# Altium footprint library SerDes_Eval_Board_Footprints.PcbLib: 32 footprints (part 1 of 2)
Each footprint in its own frame and in the unit in brackets; x right, y up, seen from the top. Pads: shape width x height; smd on the part's side, far side on the other; paste and mask are expansions set on the pad; w line width, h text height; cw(c..) or ccw(c..) is an arc to the next point about the centre after c.
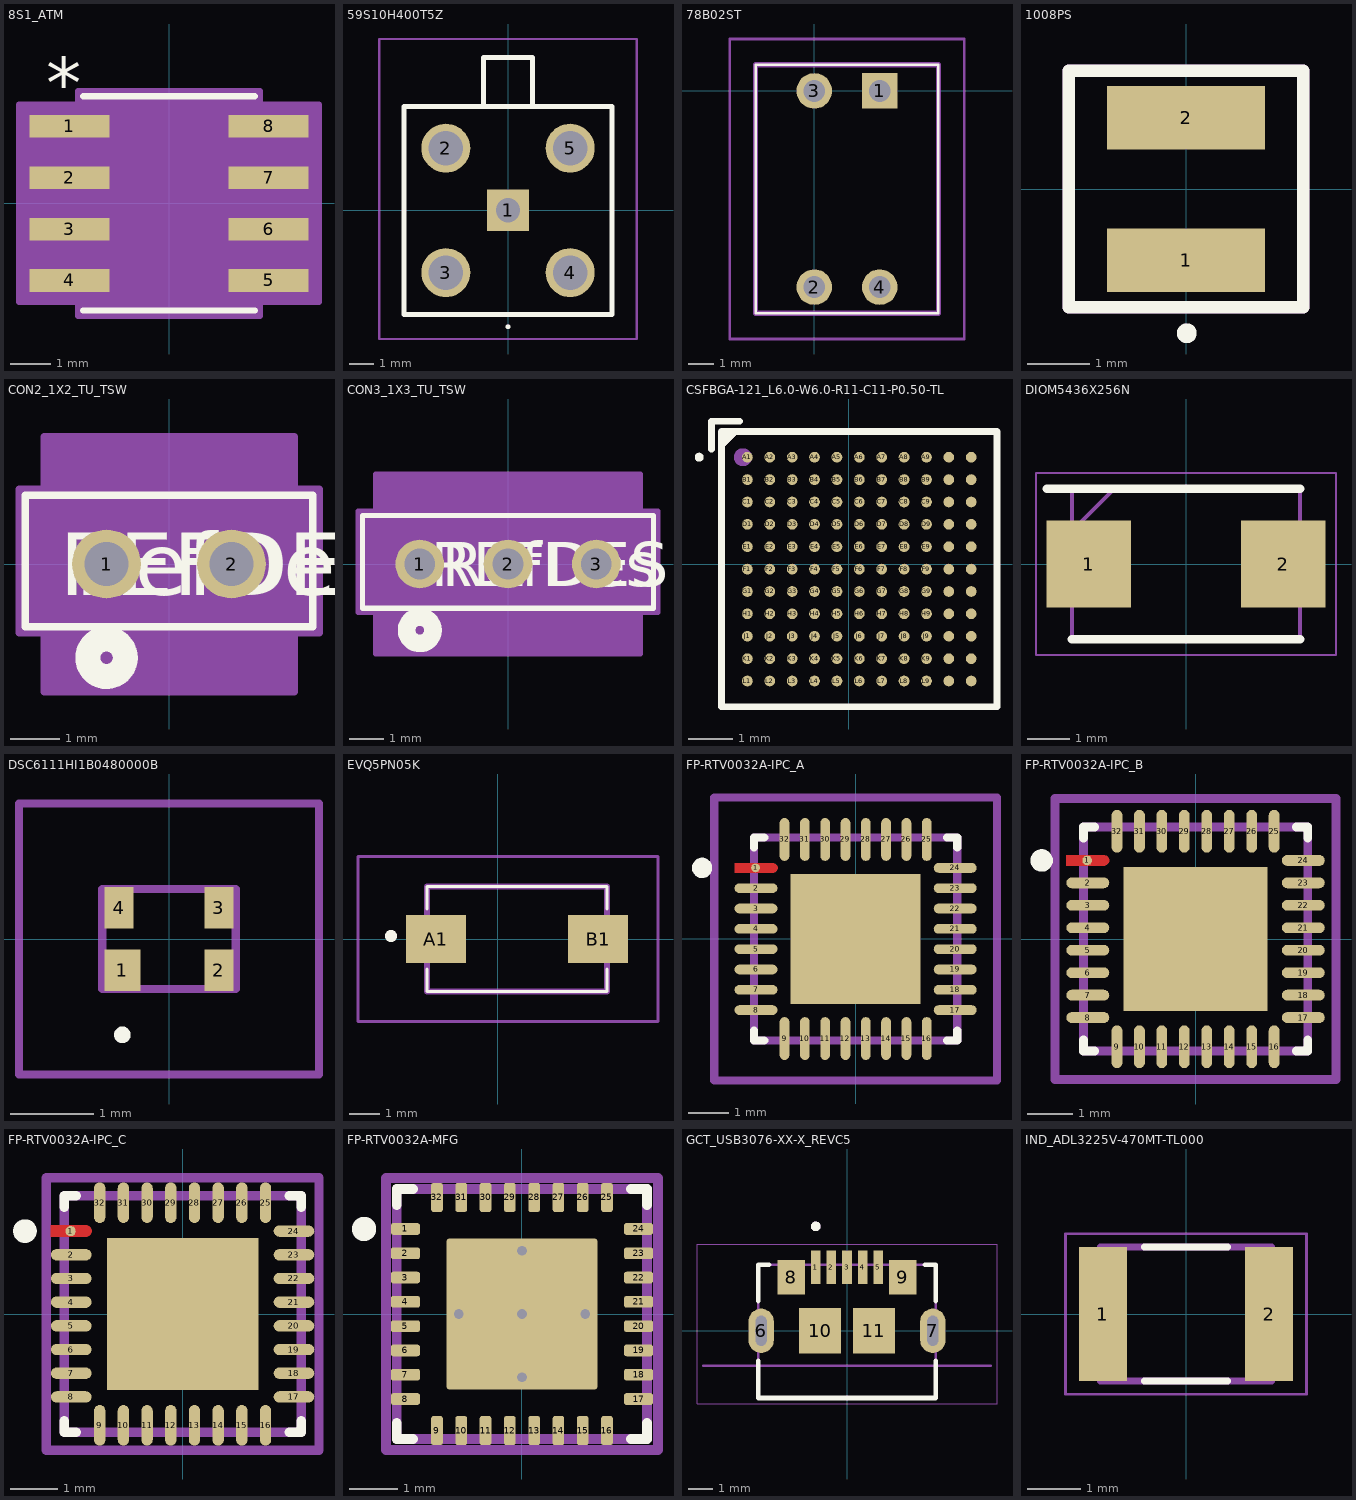
[diagram p0: the footprints below, top view; thin cyan lines are the x and y axes]

## 8S1_ATM [mm]
pads (8):
  rect 1.981x0.561 smd paste+0 mask+0: 1(-2.465,1.905) 2(-2.465,0.635) 3(-2.465,-0.635) 4(-2.465,-1.905) 5(2.465,-1.905) 6(2.465,-0.635) 7(2.465,0.635) 8(2.465,1.905)
Top Overlay:
  lines w0.152: -2.122,-2.652 2.122,-2.652 ; -2.122,2.652 2.122,2.652
  text ".Designator" at -3.492,-0.635 h1.27
  text "*" at -3.036,2.339 h1.27
Mechanical 13:
  lines w0.025: -0.305,2.525 ccw(c0,2.525) 0.305,2.525 ; -3.1,-2.16 -3.1,-1.65 -1.995,-1.65 -1.995,-2.16 -3.1,-2.16 ; -3.1,-0.89 -3.1,-0.38 -1.995,-0.38 -1.995,-0.89 -3.1,-0.89 ; -3.1,0.38 -3.1,0.89 -1.995,0.89 -1.995,0.38 -3.1,0.38 ; -3.1,1.65 -3.1,2.16 -1.995,2.16 -1.995,1.65 -3.1,1.65 ; -1.995,-2.525 1.995,-2.525 1.995,2.525 -1.995,2.525 -1.995,-2.525 ; 1.995,-2.16 1.995,-1.65 3.1,-1.65 3.1,-2.16 1.995,-2.16 ; 1.995,-0.89 1.995,-0.38 3.1,-0.38 3.1,-0.89 1.995,-0.89 ; 1.995,0.38 1.995,0.89 3.1,0.89 3.1,0.38 1.995,0.38 ; 1.995,1.65 1.995,2.16 3.1,2.16 3.1,1.65 1.995,1.65
  text "*" at -1.931,1.179 h1.27
  text ".Designator" at -3.492,-0.635 h1.27
Mechanical 15:
  region: -2.249,-2.439 -3.71,-2.439 -3.71,2.439 -2.249,2.439 -2.249,2.779 2.249,2.779 2.249,2.439 3.71,2.439 3.71,-2.439 2.249,-2.439 2.249,-2.779 -2.249,-2.779
  lines w0.152: -3.71,-2.439 -3.71,2.439 -2.249,2.439 -2.249,2.779 2.249,2.779 2.249,2.439 3.71,2.439 3.71,-2.439 2.249,-2.439 2.249,-2.779 -2.249,-2.779 -2.249,-2.439 -3.71,-2.439
3D body "8S1_ATM.step": height 1.75, standoff 0, extent -3.1,-2.525 3.1,2.525

## 59S10H400T5Z [mm]
pads (5):
  rect 1.7x1.7 hole 1: 1(0,0)
  round 2 hole 1.4: 2(-2.54,2.54) 3(-2.54,-2.54) 4(2.54,-2.54) 5(2.54,2.54)
Top Overlay:
  lines w0.1: 0,-4.8 ccw(c0,-4.75) 0,-4.7 ccw(c0,-4.75) 0,-4.8
  lines w0.2: -1,4.25 -1,6.25 1,6.25 1,4.25 ; -4.25,-4.25 4.25,-4.25 4.25,4.25 -4.25,4.25 -4.25,-4.25
Mechanical 13:
  lines w0.1: -1,4.25 -1,6.25 1,6.25 1,4.25 ; -4.25,-4.25 4.25,-4.25 4.25,4.25 -4.25,4.25 -4.25,-4.25
Mechanical 15:
  lines w0.1: -5.25,-5.25 5.25,-5.25 5.25,7 -5.25,7 -5.25,-5.25
3D body "59S10H-400T5-Z.stp": height 11.86, standoff -4.59, extent -4.25,-4.25 4.25,6.25

## 78B02ST [mm]
pads (4):
  rect 1.381x1.381 hole 0.85: 1(2.54,0)
  round 1.381 hole 0.85: 2(0,-7.62) 3(0,0) 4(2.54,-7.62)
Top Overlay:
  lines w0.1: -2.28,-8.635 4.82,-8.635 4.82,1.015 -2.28,1.015 -2.28,-8.635
Mechanical 15:
  lines w0.2: -2.28,-8.635 4.82,-8.635 4.82,1.015 -2.28,1.015 -2.28,-8.635
Mechanical 20:
  lines w0.1: -3.28,-9.635 5.82,-9.635 5.82,2.015 -3.28,2.015 -3.28,-9.635
3D body "78B02ST.stp": height 7.11, standoff -5.48, extent -2.28,-8.635 4.82,1.015

## 1008PS [mm]
pads (2):
  rect 2.54x1.02 smd: 1(0,-1.145) 2(0,1.145)
Top Overlay:
  circle w0.2: c0.012,-2.322 r0.06
  lines w0.2: -1.89,-1.905 -1.89,1.905 1.89,1.905 1.89,-1.905 -1.89,-1.905
Mechanical 13:
  lines w0.2: -1.89,-1.905 1.89,-1.905 1.89,1.905 -1.89,1.905 -1.89,-1.905
3D body "Coilcraft-1008PS.STEP": height 2.74, standoff -0.01, extent -1.89,-1.905 1.89,1.905

## CON2_1X2_TU_TSW [mil]
pads (2):
  round 55 / inner round 60 / far side round 55 hole 35 paste-99999 mask+0: 1(-50,0) 2(50,0)
Top Overlay:
  circle w20: c-50,-75 r15
  lines w6: -115,-50 115,-50 115,55 -115,55 -115,-50
  text "RefDes" at -75,-25 h50
  text "REFDES" at -87.5,-25 h50
Bottom Overlay:
  circle w20: c-50,-75 r15
Mechanical 13:
  circle w0: c-50,0 r10
  lines w1: -110,-45 110,-45 110,50 -110,50 -110,-45
  text "RefDes2" at -87.5,-25 h50
Mechanical 15:
  region: 120,60 100,60 100,102 -100,102 -100,60 -120,60 -120,-55 -100,-55 -100,-102 100,-102 100,-55 120,-55
  lines w6: -120,-55 -120,60 -100,60 -100,102 100,102 100,60 120,60 120,-55 100,-55 100,-102 -100,-102 -100,-55 -120,-55
3D body "CON2_1X2_TU_TSW.step": height 500, standoff -200, extent -100,-50 100,50

## CON3_1X3_TU_TSW [mil]
pads (3):
  round 55 / inner round 60 / far side round 55 hole 35 paste-99999 mask+0: 1(-100,0) 2(0,0) 3(100,0)
Top Overlay:
  circle w20: c-100,-75 r15
  lines w6: -165,-50 165,-50 165,55 -165,55 -165,-50
  text "RefDes" at -75,-25 h50
  text "REFDES" at -87.5,-25 h50
Bottom Overlay:
  circle w20: c-100,-75 r15
Mechanical 13:
  circle w0: c-100,0 r10
  lines w1: -160,-45 160,-45 160,50 -160,50 -160,-45
  text "RefDes2" at -87.5,-25 h50
Mechanical 15:
  region: 170,60 150,60 150,102 -150,102 -150,60 -170,60 -170,-55 -150,-55 -150,-102 150,-102 150,-55 170,-55
  lines w6: -170,-55 -170,60 -150,60 -150,102 150,102 150,60 170,60 170,-55 150,-55 150,-102 -150,-102 -150,-55 -170,-55
3D body "CON3_1X3_TU_TSW.step": height 500, standoff -200, extent -150,-50 150,50

## CSFBGA-121_L6.0-W6.0-R11-C11-P0.50-TL [mm]
pads (121):
  round 0.24 smd paste-100 mask+0.05: A1(-2.263,2.386) A2(-1.763,2.386) A3(-1.263,2.386) A4(-0.763,2.386) A5(-0.263,2.386) A6(0.237,2.386) A7(0.737,2.386) A8(1.237,2.386) A9(1.737,2.386) A10(2.237,2.386) A11(2.737,2.386) B1(-2.263,1.886) B2(-1.763,1.886) B3(-1.263,1.886) B4(-0.763,1.886) B5(-0.263,1.886) B6(0.237,1.886) B7(0.737,1.886) B8(1.237,1.886) B9(1.737,1.886) B10(2.237,1.886) B11(2.737,1.886) C1(-2.263,1.386) C2(-1.763,1.386) C3(-1.263,1.386) C4(-0.763,1.386) C5(-0.263,1.386) C6(0.237,1.386) C7(0.737,1.386) C8(1.237,1.386) C9(1.737,1.386) C10(2.237,1.386) C11(2.737,1.386) D1(-2.263,0.886) D2(-1.763,0.886) D3(-1.263,0.886) D4(-0.763,0.886) D5(-0.263,0.886) D6(0.237,0.886) D7(0.737,0.886) D8(1.237,0.886) D9(1.737,0.886) D10(2.237,0.886) D11(2.737,0.886) E1(-2.263,0.386) E2(-1.763,0.386) E3(-1.263,0.386) E4(-0.763,0.386) E5(-0.263,0.386) E6(0.237,0.386) E7(0.737,0.386) E8(1.237,0.386) E9(1.737,0.386) E10(2.237,0.386) E11(2.737,0.386) F1(-2.263,-0.114) F2(-1.763,-0.114) F3(-1.263,-0.114) F4(-0.763,-0.114) F5(-0.263,-0.114) F6(0.237,-0.114) F7(0.737,-0.114) F8(1.237,-0.114) F9(1.737,-0.114) F10(2.237,-0.114) F11(2.737,-0.114) G1(-2.263,-0.614) G2(-1.763,-0.614) G3(-1.263,-0.614) G4(-0.763,-0.614) G5(-0.263,-0.614) G6(0.237,-0.614) G7(0.737,-0.614) G8(1.237,-0.614) G9(1.737,-0.614) G10(2.237,-0.614) G11(2.737,-0.614) H1(-2.263,-1.114) H2(-1.763,-1.114) H3(-1.263,-1.114) H4(-0.763,-1.114) H5(-0.263,-1.114) H6(0.237,-1.114) H7(0.737,-1.114) H8(1.237,-1.114) H9(1.737,-1.114) H10(2.237,-1.114) H11(2.737,-1.114) J1(-2.263,-1.614) J2(-1.763,-1.614) J3(-1.263,-1.614) J4(-0.763,-1.614) J5(-0.263,-1.614) J6(0.237,-1.614) J7(0.737,-1.614) J8(1.237,-1.614) J9(1.737,-1.614) J10(2.237,-1.614) J11(2.737,-1.614) K1(-2.263,-2.114) K2(-1.763,-2.114) K3(-1.263,-2.114) K4(-0.763,-2.114) K5(-0.263,-2.114) K6(0.237,-2.114) K7(0.737,-2.114) K8(1.237,-2.114) K9(1.737,-2.114) K10(2.237,-2.114) K11(2.737,-2.114) L1(-2.263,-2.614) L2(-1.763,-2.614) L3(-1.263,-2.614) L4(-0.763,-2.614) L5(-0.263,-2.614) L6(0.237,-2.614) L7(0.737,-2.614) L8(1.237,-2.614) L9(1.737,-2.614) L10(2.237,-2.614) L11(2.737,-2.614)
Top Overlay:
  circle w0.1: c-3.339,2.386 r0.05
  region: -2.839,2.962 -2.439,2.962 -2.839,2.562
  lines w0.152: -3.067,2.562 -3.067,3.19 -2.439,3.19 ; -2.839,-3.19 -2.839,2.962 3.313,2.962 3.313,-3.19 -2.839,-3.19
Top Paste:
  drawing of 121 lines, arcs and shapes, not listed
Mechanical 15:
  circle w0.2: c-2.363,2.386 r0.1
  region: -2.839,2.962 -2.839,2.562 -2.439,2.962
3D body "LCMXO3LF-4300E-5MG121C.stp": height 1, standoff 0, extent -2.794,-3.048 3.206,2.952

## DIOM5436X256N [mm]
pads (2):
  rect 2x2.05 smd: 1(-2.3,0) 2(2.3,0)
Top Overlay:
  lines w0.2: -3.3,1.778 2.7,1.778 ; -2.7,-1.778 2.7,-1.778
Mechanical 13:
  lines w0.1: -2.7,0.778 -1.7,1.778 ; -2.7,-1.778 -2.7,1.778 2.7,1.778 2.7,-1.778 -2.7,-1.778
Mechanical 15:
  lines w0.05: -3.55,-2.155 -3.55,2.155 3.55,2.155 3.55,-2.155 -3.55,-2.155
3D body "MBRS1540T3G.stp": height 2.56, standoff 0, extent -2.7,-1.777 2.7,1.777

## DSC6111HI1B0480000B [mm]
pads (4):
  rect 0.43x0.5 smd: 1(-0.56,-0.375)
  rect 0.35x0.5 smd: 2(0.6,-0.375) 3(0.6,0.375) 4(-0.6,0.375)
Top Overlay:
  lines w0.1: -0.56,-1.2 ccw(c-0.56,-1.15) -0.56,-1.1 ccw(c-0.56,-1.15) -0.56,-1.2
Mechanical 13:
  lines w0.1: -0.8,-0.6 0.8,-0.6 0.8,0.6 -0.8,0.6 -0.8,-0.6
Mechanical 15:
  lines w0.1: -1.8,-1.625 1.8,-1.625 1.8,1.625 -1.8,1.625 -1.8,-1.625
3D body "DSC6111HI1B-048.0000B.stp": height 0.99, standoff 0, extent -0.8,-0.6 0.8,0.6

## EVQ5PN05K [mm]
pads (2):
  rect 2x1.6 smd: A1(-2.05,0) B1(3.35,0)
Top Overlay:
  lines w0.1: -2.35,-1 -2.35,-1.75 3.65,-1.75 3.65,-1 ; -2.35,1 -2.35,1.75 3.65,1.75 3.65,1
  lines w0.2: -3.55,0 cw(c-3.55,0.1) -3.55,0.2 cw(c-3.55,0.1) -3.55,0
Mechanical 13:
  lines w0.2: -2.35,-1.75 3.65,-1.75 3.65,1.75 -2.35,1.75 -2.35,-1.75
Mechanical 15:
  lines w0.1: -4.65,-2.75 5.35,-2.75 5.35,2.75 -4.65,2.75 -4.65,-2.75
3D body "EVQ-PNF04M.stp": height 4.6, standoff 0, extent -2.965,-1.75 4.235,1.75

## FP-RTV0032A-IPC_A [mm]
pads (33):
  round 0.215 smd paste+0 mask+0: 1(-2.463,1.75)
  rrect100% 1.057x0.239 smd paste+0 mask+0: 2(-2.451,1.25) 3(-2.451,0.75) 4(-2.451,0.25) 5(-2.451,-0.25) 6(-2.451,-0.75) 7(-2.451,-1.25) 8(-2.451,-1.75) 17(2.451,-1.75) 18(2.451,-1.25) 19(2.451,-0.75) 20(2.451,-0.25) 21(2.451,0.25) 22(2.451,0.75) 23(2.451,1.25) 24(2.451,1.75)
  rrect100% 0.239x1.057 smd paste+0 mask+0: 9(-1.75,-2.451) 10(-1.25,-2.451) 11(-0.75,-2.451) 12(-0.25,-2.451) 13(0.25,-2.451) 14(0.75,-2.451) 15(1.25,-2.451) 16(1.75,-2.451) 25(1.75,2.451) 26(1.25,2.451) 27(0.75,2.451) 28(0.25,2.451) 29(-0.25,2.451) 30(-0.75,2.451) 31(-1.25,2.451) 32(-1.75,2.451)
  rect 3.2x3.2 smd paste-1000 mask+0: ""(0,0)
Top Layer:
  region: -2.979,1.87 -2.042,1.87 -2.018,1.87 -1.974,1.851 -1.94,1.818 -1.922,1.774 -1.922,1.75 -1.922,1.726 -1.94,1.682 -1.974,1.649 -2.018,1.63 -2.042,1.63 -2.979,1.63
Top Overlay:
  circle w0.25: c-3.779,1.75 r0.125
  lines w0.2: -2.5,-2.25 -2.5,-2.5 -2.25,-2.5 ; -2.5,2.25 -2.5,2.5 -2.25,2.5 ; 2.25,-2.5 2.5,-2.5 2.5,-2.25 ; 2.25,2.5 2.5,2.5 2.5,2.25
Top Paste:
  rectangle: -1.012,-1.012 1.012,1.012
Top Assembly:
  lines w0.2: -3.479,-3.479 3.479,-3.479 3.479,3.479 -3.479,3.479 -3.479,-3.479
  text ".Designator" at 0,0.188 h1
Top 3D Body:
  lines w0.2: -2.5,-2.5 2.5,-2.5 2.5,2.5 -2.5,2.5 -2.5,-2.5
Top Courtyard:
  lines w0.2: -3.479,-3.479 3.479,-3.479 3.479,3.479 -3.479,3.479 -3.479,-3.479
Top Component Center:
  lines w0.1: -0.5,0 0.5,0 ; 0,-0.5 0,0.5
3D body "IC_Texas_Instruments_DS90UB933TRTVRQ1_eec.STEP": height 0.25, standoff 0, extent -3.479,-3.479 3.479,3.479

## FP-RTV0032A-IPC_B [mm]
pads (33):
  round 0.215 smd paste+0 mask+0: 1(-2.413,1.75)
  rrect100% 0.957x0.239 smd paste+0 mask+0: 2(-2.401,1.25) 3(-2.401,0.75) 4(-2.401,0.25) 5(-2.401,-0.25) 6(-2.401,-0.75) 7(-2.401,-1.25) 8(-2.401,-1.75) 17(2.401,-1.75) 18(2.401,-1.25) 19(2.401,-0.75) 20(2.401,-0.25) 21(2.401,0.25) 22(2.401,0.75) 23(2.401,1.25) 24(2.401,1.75)
  rrect100% 0.239x0.957 smd paste+0 mask+0: 9(-1.75,-2.401) 10(-1.25,-2.401) 11(-0.75,-2.401) 12(-0.25,-2.401) 13(0.25,-2.401) 14(0.75,-2.401) 15(1.25,-2.401) 16(1.75,-2.401) 25(1.75,2.401) 26(1.25,2.401) 27(0.75,2.401) 28(0.25,2.401) 29(-0.25,2.401) 30(-0.75,2.401) 31(-1.25,2.401) 32(-1.75,2.401)
  rect 3.2x3.2 smd paste-1000 mask+0: ""(0,0)
Top Layer:
  region: -2.879,1.87 -2.042,1.87 -2.018,1.87 -1.974,1.851 -1.94,1.818 -1.922,1.774 -1.922,1.75 -1.922,1.726 -1.94,1.682 -1.974,1.649 -2.018,1.63 -2.042,1.63 -2.879,1.63
Top Overlay:
  circle w0.25: c-3.429,1.75 r0.125
  lines w0.2: -2.5,-2.25 -2.5,-2.5 -2.25,-2.5 ; -2.5,2.25 -2.5,2.5 -2.25,2.5 ; 2.25,-2.5 2.5,-2.5 2.5,-2.25 ; 2.25,2.5 2.5,2.5 2.5,2.25
Top Paste:
  rectangle: -1.012,-1.012 1.012,1.012
Top Assembly:
  lines w0.2: -3.129,-3.129 3.129,-3.129 3.129,3.129 -3.129,3.129 -3.129,-3.129
  text ".Designator" at 0,0.188 h1
Top 3D Body:
  lines w0.2: -2.5,-2.5 2.5,-2.5 2.5,2.5 -2.5,2.5 -2.5,-2.5
Top Courtyard:
  lines w0.2: -3.129,-3.129 3.129,-3.129 3.129,3.129 -3.129,3.129 -3.129,-3.129
Top Component Center:
  lines w0.1: -0.5,0 0.5,0 ; 0,-0.5 0,0.5
3D body "IC_Texas_Instruments_DS90UB933TRTVRQ1_eec.STEP": height 0.25, standoff 0, extent -3.129,-3.129 3.129,3.129

## FP-RTV0032A-IPC_C [mm]
pads (33):
  round 0.215 smd paste+0 mask+0: 1(-2.363,1.75)
  rrect100% 0.857x0.239 smd paste+0 mask+0: 2(-2.351,1.25) 3(-2.351,0.75) 4(-2.351,0.25) 5(-2.351,-0.25) 6(-2.351,-0.75) 7(-2.351,-1.25) 8(-2.351,-1.75) 17(2.351,-1.75) 18(2.351,-1.25) 19(2.351,-0.75) 20(2.351,-0.25) 21(2.351,0.25) 22(2.351,0.75) 23(2.351,1.25) 24(2.351,1.75)
  rrect100% 0.239x0.857 smd paste+0 mask+0: 9(-1.75,-2.351) 10(-1.25,-2.351) 11(-0.75,-2.351) 12(-0.25,-2.351) 13(0.25,-2.351) 14(0.75,-2.351) 15(1.25,-2.351) 16(1.75,-2.351) 25(1.75,2.351) 26(1.25,2.351) 27(0.75,2.351) 28(0.25,2.351) 29(-0.25,2.351) 30(-0.75,2.351) 31(-1.25,2.351) 32(-1.75,2.351)
  rect 3.2x3.2 smd paste-1000 mask+0: ""(0,0)
Top Layer:
  region: -2.779,1.87 -2.042,1.87 -2.018,1.87 -1.974,1.851 -1.94,1.818 -1.922,1.774 -1.922,1.75 -1.922,1.726 -1.94,1.682 -1.974,1.649 -2.018,1.63 -2.042,1.63 -2.779,1.63
Top Overlay:
  circle w0.25: c-3.329,1.75 r0.125
  lines w0.2: -2.5,-2.25 -2.5,-2.5 -2.25,-2.5 ; -2.5,2.25 -2.5,2.5 -2.25,2.5 ; 2.25,-2.5 2.5,-2.5 2.5,-2.25 ; 2.25,2.5 2.5,2.5 2.5,2.25
Top Paste:
  rectangle: -1.012,-1.012 1.012,1.012
Top Assembly:
  lines w0.2: -2.879,-2.879 2.879,-2.879 2.879,2.879 -2.879,2.879 -2.879,-2.879
  text ".Designator" at 0,0.188 h1
Top 3D Body:
  lines w0.2: -2.5,-2.5 2.5,-2.5 2.5,2.5 -2.5,2.5 -2.5,-2.5
Top Courtyard:
  lines w0.2: -2.879,-2.879 2.879,-2.879 2.879,2.879 -2.879,2.879 -2.879,-2.879
Top Component Center:
  lines w0.1: -0.5,0 0.5,0 ; 0,-0.5 0,0.5
3D body "IC_Texas_Instruments_DS90UB933TRTVRQ1_eec.STEP": height 0.25, standoff 0, extent -2.879,-2.879 2.879,2.879

## FP-RTV0032A-MFG [mm]
pads (33):
  rrect42% 0.6x0.24 smd paste+0 mask+0: 1(-2.4,1.75) 2(-2.4,1.25) 3(-2.4,0.75) 4(-2.4,0.25) 5(-2.4,-0.25) 6(-2.4,-0.75) 7(-2.4,-1.25) 8(-2.4,-1.75) 17(2.4,-1.75) 18(2.4,-1.25) 19(2.4,-0.75) 20(2.4,-0.25) 21(2.4,0.25) 22(2.4,0.75) 23(2.4,1.25) 24(2.4,1.75)
  rrect42% 0.24x0.6 smd paste+0 mask+0: 9(-1.75,-2.4) 10(-1.25,-2.4) 11(-0.75,-2.4) 12(-0.25,-2.4) 13(0.25,-2.4) 14(0.75,-2.4) 15(1.25,-2.4) 16(1.75,-2.4) 25(1.75,2.4) 26(1.25,2.4) 27(0.75,2.4) 28(0.25,2.4) 29(-0.25,2.4) 30(-0.75,2.4) 31(-1.25,2.4) 32(-1.75,2.4)
  rrect3% 3.1x3.1 smd paste-1000 mask+0: ""(0,0)
via 1.3,0 diameter 0.5 hole 0.2
via -1.3,0 diameter 0.5 hole 0.2
via 0,1.3 diameter 0.5 hole 0.2
via 0,0 diameter 0.5 hole 0.2
via 0,-1.3 diameter 0.5 hole 0.2
Top Overlay:
  circle w0.25: c-3.25,1.75 r0.125
  lines w0.2: -2.575,-2.245 -2.575,-2.575 -2.245,-2.575 ; -2.575,2.245 -2.575,2.575 -2.245,2.575 ; 2.245,-2.575 2.575,-2.575 2.575,-2.245 ; 2.245,2.575 2.575,2.575 2.575,2.245
Top Paste:
  region: 0.15,-1.45 0.14,-1.45 0.122,-1.442 0.108,-1.428 0.1,-1.41 0.1,-1.4 0.1,-0.15 0.1,-0.14 0.108,-0.122 0.122,-0.108 0.14,-0.1 0.15,-0.1 1.4,-0.1 1.41,-0.1 1.428,-0.108 1.442,-0.122 1.45,-0.14 1.45,-0.15 1.45,-1.4 1.45,-1.41 1.442,-1.428 1.428,-1.442 1.41,-1.45 1.4,-1.45
  region: -1.45,-1.4 -1.45,-0.15 -1.45,-0.14 -1.442,-0.122 -1.428,-0.108 -1.41,-0.1 -1.4,-0.1 -0.15,-0.1 -0.14,-0.1 -0.122,-0.108 -0.108,-0.122 -0.1,-0.14 -0.1,-0.15 -0.1,-1.4 -0.1,-1.41 -0.108,-1.428 -0.122,-1.442 -0.14,-1.45 -0.15,-1.45 -1.4,-1.45 -1.41,-1.45 -1.428,-1.442 -1.442,-1.428 -1.45,-1.41
  region: -0.1,0.15 -0.1,0.14 -0.108,0.122 -0.122,0.108 -0.14,0.1 -0.15,0.1 -1.4,0.1 -1.41,0.1 -1.428,0.108 -1.442,0.122 -1.45,0.14 -1.45,0.15 -1.45,1.4 -1.45,1.41 -1.442,1.428 -1.428,1.442 -1.41,1.45 -1.4,1.45 -0.15,1.45 -0.14,1.45 -0.122,1.442 -0.108,1.428 -0.1,1.41 -0.1,1.4
  region: 1.45,0.15 1.45,0.14 1.442,0.122 1.428,0.108 1.41,0.1 1.4,0.1 0.15,0.1 0.14,0.1 0.122,0.108 0.108,0.122 0.1,0.14 0.1,0.15 0.1,1.4 0.1,1.41 0.108,1.428 0.122,1.442 0.14,1.45 0.15,1.45 1.4,1.45 1.41,1.45 1.428,1.442 1.442,1.428 1.45,1.41 1.45,1.4
Top Assembly:
  lines w0.2: -2.8,-2.8 -2.8,2.8 2.8,2.8 2.8,-2.8 -2.8,-2.8
  text ".Designator" at 0,0.188 h1
Top 3D Body:
  lines w0.2: -2.575,-2.575 -2.575,2.575 2.575,2.575 2.575,-2.575 -2.575,-2.575
Top Courtyard:
  lines w0.2: -2.8,-2.8 -2.8,2.8 2.8,2.8 2.8,-2.8 -2.8,-2.8
Top Component Center:
  lines w0.1: -0.5,0 0.5,0 ; 0,-0.5 0,0.5
3D body "IC_Texas_Instruments_DS90UB933TRTVRQ1_eec.STEP": height 0.25, standoff 0, extent -2.8,-2.8 2.8,2.8

## GCT_USB3076-XX-X_REVC5 [mm]
height 2.66
pads (11):
  rect 0.4x1.4 smd: 1(-1.3,2.65) 2(-0.65,2.65) 3(0,2.65) 4(0.65,2.65) 5(1.3,2.65)
  oval 1.05x1.85 hole 0.45 slot 1.252 at 90 deg: 6(-3.575,0) 7(3.575,0)
  rect 1.15x1.45 smd: 8(-2.32,2.23) 9(2.32,2.23)
  rect 1.75x1.9 smd: 10(-1.125,0) 11(1.125,0)
Top Overlay:
  circle w0.2: c-1.3,4.35 r0.1
  lines w0.2: -3.7,-1.245 -3.7,-2.8 3.7,-2.8 3.7,-1.245 ; -3.7,1.245 -3.7,2.75 -3.245,2.75 ; 3.245,2.75 3.7,2.75 3.7,1.245
Mechanical 13:
  circle w0.2: c-1.3,4.35 r0.1
  lines w0.1: -6,-1.45 6,-1.45 ; -3.7,-2.8 -3.7,2.75 3.7,2.75 3.7,-2.8 -3.7,-2.8
Mechanical 15:
  lines w0.05: -6.25,-3.05 6.25,-3.05 6.25,3.6 -6.25,3.6 -6.25,-3.05
3D body "step_temp.STEP": height 2.66, standoff -1, extent -3.7,-2.775 3.7,2.775

## IND_ADL3225V-470MT-TL000 [mm]
height 2.5
pads (2):
  rect 0.9x2.5 smd: 1(-1.55,0) 2(1.55,0)
Top Overlay:
  lines w0.127: -0.78,-1.25 0.78,-1.25 ; -0.78,1.25 0.78,1.25
Mechanical 13:
  lines w0.127: -1.6,-1.25 1.6,-1.25 1.6,1.25 -1.6,1.25 -1.6,-1.25
Mechanical 15:
  lines w0.05: -2.25,-1.5 2.25,-1.5 2.25,1.5 -2.25,1.5 -2.25,-1.5
3D body "ADL3225V-470MT-TL000--3DModel-STEP-56544.STEP": height 2.5, standoff 0, extent -1.549,-1.23 1.651,1.27